# Altium footprint library switches.PcbLib: 7 footprints
Each footprint in its own frame and in the unit in brackets; x right, y up, seen from the top. Pads: shape width x height; smd on the part's side, far side on the other; paste and mask are expansions set on the pad; w line width, h text height; cw(c..) or ccw(c..) is an arc to the next point about the centre after c.
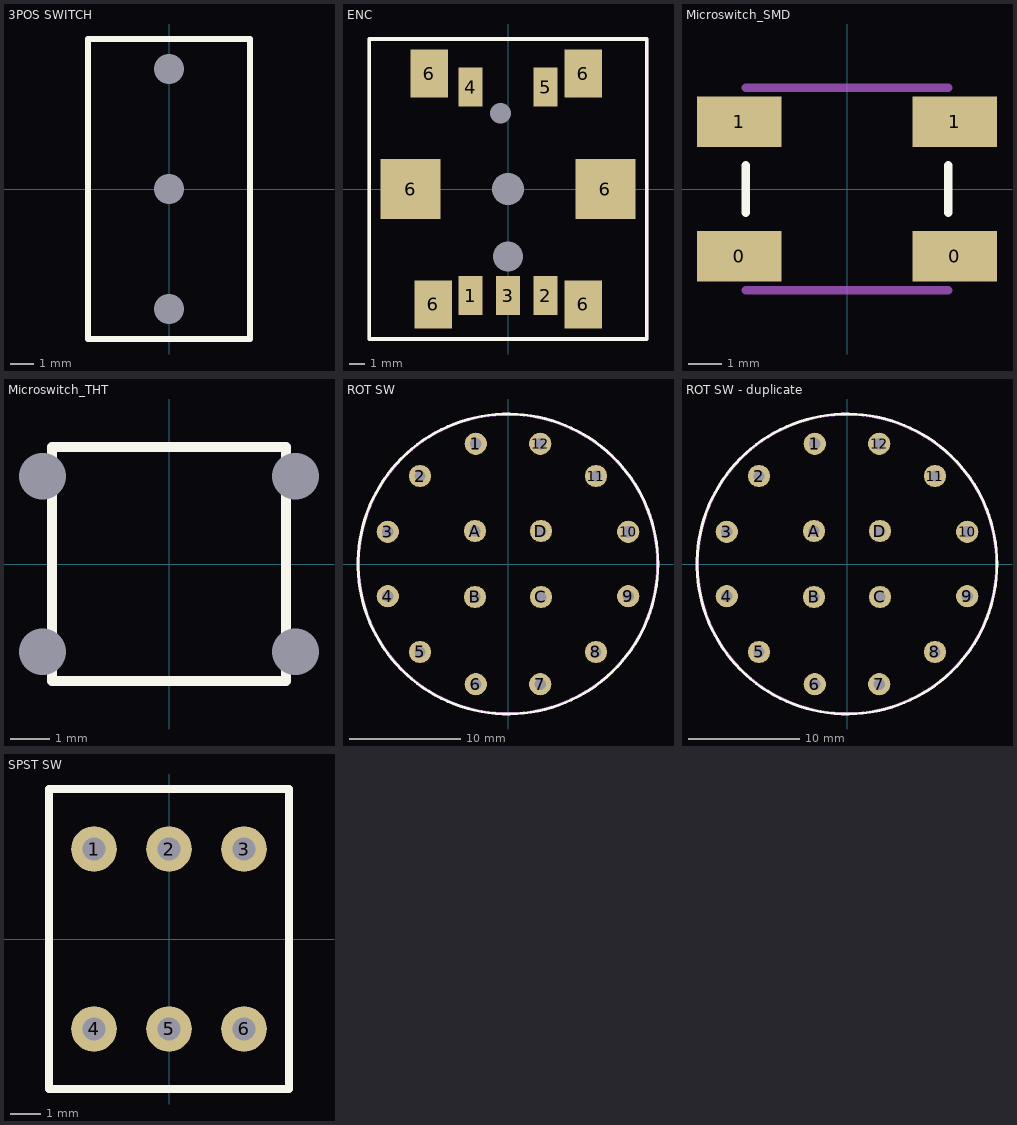
[diagram p0: the footprints below, top view; thin cyan lines are the x and y axes]

## 3POS SWITCH [mm] "Przelacznik SP3T"
pads (3):
  round 0 / inner oval 3.556x1.778 / far side oval 3.556x1.778 hole 1.27 square: 1(0,-5.08) 2(0,0) 3(0,5.08)
Top Overlay:
  lines w0.254: -3.429,-6.35 -3.429,6.35 3.429,6.35 3.429,0 3.429,-6.35 -3.429,-6.35
Mechanical 1:
  lines w0.254: -3.429,-6.35 3.429,-6.35 3.429,0.508 3.429,6.35 -3.429,6.35 -3.429,-6.35
3D body: height 28.13, standoff 24.7, extent -1.713,4.001 1.713,7.429
3D body: height 27.26, standoff 15.66, extent -1.714,-1.48 1.715,7.195
3D body: height 17.78, standoff 8.89, extent -3.17,-3.174 3.175,3.174
3D body: height 9.02, standoff 0, extent -3.429,-6.35 3.429,6.35

## ENC [mm] "Enkoder"
pads (14):
  round 0 hole 2.1: 0(0,0)
  rect 1.6x2.6 smd: 1(-2.5,-7.1) 2(2.5,-7.1) 3(0,-7.1) 4(-2.5,6.8) 5(2.5,6.8)
  rrect80% 0x0 hole 1.4 square: 4(-0.5,5.05)
  rrect80% 0x0 hole 2 square: 4(0,-4.5)
  rect 4x4 smd: 6(-6.5,0) 6(6.5,0)
  rect 2.5x3.2 smd: 6(-5.25,7.7) 6(-5,-7.7) 6(5,-7.7) 6(5,7.7)
Top Overlay:
  lines w0.254: -9.25,-10 -9.25,10 9.25,10 9.25,-10 9,-10 -9.25,-10
Mechanical 1:
  lines w0.254: -9.25,-10 9.25,-10 9.25,10 -9.25,10 -9.25,-10
3D body: height 4.5, standoff 0, extent -9.25,-10 9.25,10
3D body: height 14.5, standoff 4.5, extent -4.5,-4.5 4.5,4.5
3D body: height 24.5, standoff 14.5, extent -3,-3 3,3

## Microswitch_SMD [mm] "Tact switch, monta¿ powierzchniowy"
height 7
pads (4):
  rect 2.5x1.5 smd: 0(-3.2,-2) 0(3.2,-2) 1(-3.2,2) 1(3.2,2)
Top Overlay:
  lines w0.254: -3,-0.7 -3,0.7 ; 3,-0.7 3,0.7
Mechanical 1:
  lines w0.254: -3,-3 3,-3 ; -3,3 3,3
3D body: height 3.4, standoff 0, extent -3,-3 3,3
3D body: height 3.45, standoff 3.4, extent -3,-3 3,3
3D body: height 3.95, standoff 3.45, extent -2.249,1.25 -1.25,2.25
3D body: height 3.95, standoff 3.45, extent 1.251,1.25 2.25,2.25
3D body: height 3.95, standoff 3.45, extent 1.251,-2.25 2.25,-1.25
3D body: height 3.95, standoff 3.45, extent -2.249,-2.25 -1.25,-1.25
3D body: height 7.05, standoff 3.45, extent -1.748,-1.75 1.75,1.75

## Microswitch_THT [mm] "Tact switch, monta¿ przewlekany"
height 7
pads (4):
  round 0 / inner round 1.524 / far side round 1.524 hole 1.2: 1(3.25,-2.25) 2(-3.25,-2.25) 3(3.25,2.25) 4(-3.25,2.25)
Top Overlay:
  lines w0.254: -3,-3 3,-3 3,0 3,3 -3,3 -3,-3
Mechanical 1:
  lines w0.254: -3,-3 -3,3 3,3 3,-3 -3,-3
3D body: height 3.4, standoff 0, extent -3,-3 3,3
3D body: height 3.45, standoff 3.4, extent -3,-3 3,3
3D body: height 3.95, standoff 3.45, extent -2.249,1.25 -1.25,2.25
3D body: height 3.95, standoff 3.45, extent 1.251,1.25 2.25,2.25
3D body: height 3.95, standoff 3.45, extent 1.251,-2.25 2.25,-1.25
3D body: height 3.95, standoff 3.45, extent -2.249,-2.25 -1.25,-1.25
3D body: height 7.05, standoff 3.45, extent -1.748,-1.75 1.75,1.75

## ROT SW [mm] "Prze彻cznik obrotowy"
pads (16):
  round 2 hole 1: 1(-2.899,10.818) 2(-7.92,7.92) 3(-10.818,2.899) 4(-10.818,-2.899) 5(-7.92,-7.92) 6(-2.899,-10.818) 7(2.899,-10.818) 8(7.92,-7.92) 9(10.818,-2.899) 10(10.818,2.899) 11(7.92,7.92) 12(2.899,10.818) A(-2.97,2.97) B(-2.97,-2.97) C(2.97,-2.97) D(2.97,2.97)
Top Overlay:
  circle w0.254: c0,0 r13.5
Mechanical 1:
  circle w0.254: c0,0 r13.463
3D body: height 10.5, standoff 0, extent -13.1,-13.096 13.1,13.097
3D body: height 12.5, standoff 10.5, extent -9,-8.997 9,8.998
3D body: height 20.5, standoff 12.5, extent -4.5,-4.499 4.5,4.499
3D body: height 35.5, standoff 20.5, extent -3,-3 3,3

## ROT SW - duplicate [mm] "Prze彻cznik obrotowy"
pads (16):
  round 2 hole 1: 1(-2.899,10.818) 2(-7.92,7.92) 3(-10.818,2.899) 4(-10.818,-2.899) 5(-7.92,-7.92) 6(-2.899,-10.818) 7(2.899,-10.818) 8(7.92,-7.92) 9(10.818,-2.899) 10(10.818,2.899) 11(7.92,7.92) 12(2.899,10.818) A(-2.97,2.97) B(-2.97,-2.97) C(2.97,-2.97) D(2.97,2.97)
Top Overlay:
  circle w0.254: c0,0 r13.5
Mechanical 1:
  circle w0.254: c0,0 r13.463
3D body: height 35.5, standoff 20.5, extent -3,-3 3,3
3D body: height 20.5, standoff 12.5, extent -4.5,-4.499 4.5,4.499
3D body: height 12.5, standoff 10.5, extent -9,-8.997 9,8.998
3D body: height 10.5, standoff 0, extent -13.1,-13.096 13.1,13.097

## SPST SW [mil] "Przycisk SPST"
pads (6):
  round 60 hole 30: 1(-98.43,118.11) 2(0,118.11) 3(98.43,118.11) 4(-98.43,-118.11) 5(0,-118.11) 6(98.43,-118.11)
Top Overlay:
  lines w10: -157.48,-196.85 157.48,-196.85 157.48,196.85 -157.48,196.85 -157.48,-196.85
Mechanical 1:
  lines w10: -157.48,-196.85 -157.48,0 -157.48,196.85 157.48,196.85 157.48,-196.85 -157.48,-196.85
3D body: height 531.5, standoff 314.96, extent -78.74,-78.74 78.74,78.74
3D body: height 314.96, standoff 0, extent -157.48,-157.48 157.48,157.48